# Altium footprint library DrvBoard-old.PcbLib: 22 footprints (part 2 of 2)
Each footprint in its own frame and in the unit in brackets; x right, y up, seen from the top. Pads: shape width x height; smd on the part's side, far side on the other; paste and mask are expansions set on the pad; w line width, h text height; cw(c..) or ccw(c..) is an arc to the next point about the centre after c.
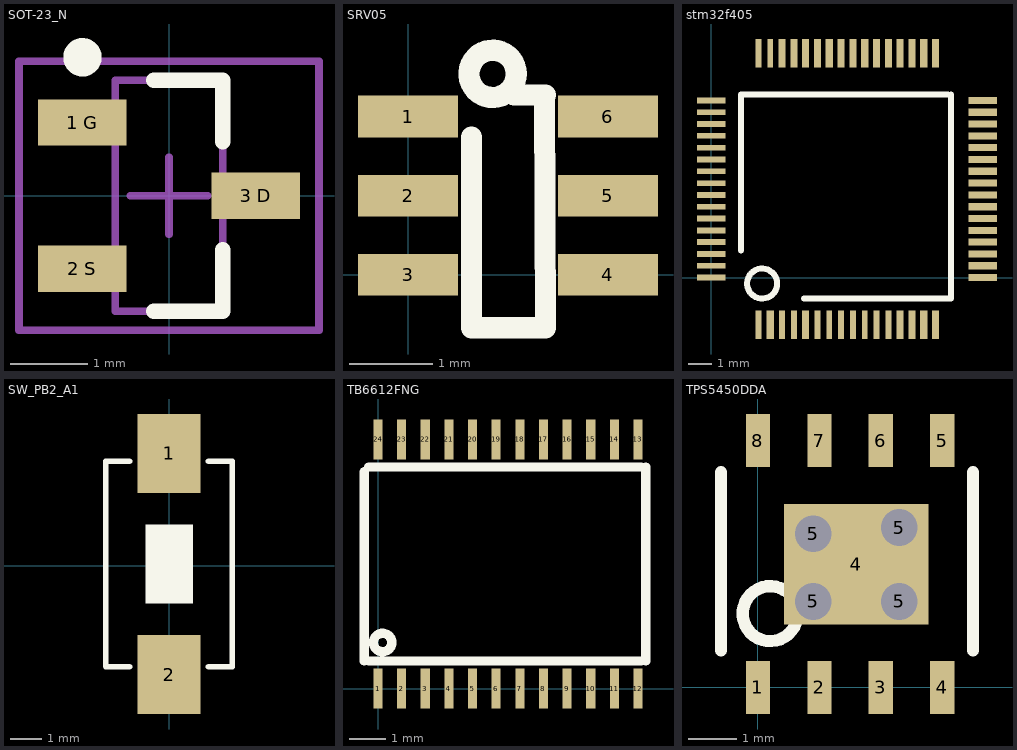
[diagram p1: the footprints below, top view; thin cyan lines are the x and y axes]

## SOT-23_N [mm] "SOT23, 3-Leads, Body 2.9x1.3mm, Pitch 0.95mm, Lead Span 2.5mm, IPC Medium Density"
height 1.1
pads (3):
  rect 1.15x0.6 smd: "1 G"(-1.125,0.95) "2 S"(-1.125,-0.95) "3 D"(1.125,0)
Top Overlay:
  circle w0.25: c-1.125,1.8 r0.125
  lines w0.2: -0.2,-1.5 0.7,-1.5 0.7,-0.7 ; -0.2,1.5 0.7,1.5 0.7,0.7
Mechanical 13:
  lines w0.1: -0.7,-1.5 -0.7,1.5 0.7,1.5 0.7,-1.5 -0.7,-1.5
Mechanical 15:
  lines w0.1: -0.5,0 0.5,0 ; 0,-0.5 0,0.5 ; -1.95,-1.75 -1.95,1.75 1.95,1.75 1.95,-1.75 -1.95,-1.75
3D body: height 1.1, standoff 0, extent -0.7,-1.5 0.7,1.5

## SRV05 [mm] "SOT-23-6"
pads (6):
  rect 1.2x0.5 smd: 1(0,1.9) 2(0,0.95) 3(0,0) 4(2.4,0) 5(2.4,0.95) 6(2.4,1.9)
Top Overlay:
  circle w0.254: c1.016,2.413 r0.284
  lines w0.254: 0.762,1.651 0.762,-0.635 1.652,-0.635 1.638,2.159 ; 1.27,2.159 1.652,2.159

## stm32f405 [mm] "LQFP64-64PIN 10*10mm"
pads (64):
  rect 0.25x1.2 smd paste+0 mask+0: "1 VBAT"(2,-2)
  rect 0.3x1.2 smd paste+0 mask+0: "2 PC13"(2.5,-2)
  rect 0.25x1.2 smd paste+0: 3(3,-2)
  rect 0.25x1.2 smd: 4(3.5,-2) 6(4.5,-2) "7 NRST"(5,-2) "8 PC0"(5.5,-2) "9 PC1"(6,-2) "10 PC2"(6.5,-2) 11(7,-2) "12 VSSA"(7.5,-2) 47(2.5,9.5) "48 VDD2"(2,9.5)
  rect 0.3x1.2 smd: 5(4,-2) "13 VDDA"(8,-2) 14(8.5,-2) 15(9,-2) "16 UART2_TX"(9.5,-2) 33(9.5,9.5) 34(9,9.5) 35(8.5,9.5) 36(8,9.5) "37 PC6"(7.5,9.5) 38(7,9.5) 39(6.5,9.5) "40 PC9"(6,9.5) 41(5.5,9.5) 42(5,9.5) 43(4.5,9.5) 44(4,9.5) 45(3.5,9.5) 46(3,9.5)
  rect 1.2x0.3 smd: 17(11.5,0) "18 VSS0"(11.5,0.5) "19 VDD1"(11.5,1) 20(11.5,1.5) 21(11.5,2) 22(11.5,2.5) 23(11.5,3) 24(11.5,3.5) "25 PC5"(11.5,4) 26(11.5,4.5) 27(11.5,5) 28(11.5,5.5) 29(11.5,6) 30(11.5,6.5) "31 VCAP_1"(11.5,7) "32 VDD0"(11.5,7.5)
  rect 1.2x0.24 smd: 49(0,7.5) 50(0,7) "51 PC10"(0,6.5) 52(0,6) 53(0,5.5) 54(0,5) 55(0,4.5) 56(0,4)
  rect 1.2x0.25 smd: 57(0,3.5) 58(0,3) 59(0,2.5) "60 BOOT0"(0,2) 61(0,1.5) 62(0,1) "63 VSS1"(0,0.5) "64 VDD3"(0,0)
Top Overlay:
  circle w0.254: c2.159,-0.254 r0.635
  lines w0.254: 1.27,1.143 1.27,7.747 10.033,7.747 ; 3.937,-0.889 10.16,-0.889 10.16,7.747

## SW_PB2_A1 [mm]
height 0.65
pads (2):
  rect 2x2.5 smd: 1(0,3.556) 2(0,-3.444)
Top Overlay:
  region: -0.746,1.307 -0.746,-1.193 0.754,-1.193 0.754,1.307
  lines w0.178: -1.25,-3.194 -2,-3.19 -2,3.306 -1.25,3.306 ; 1.25,-3.194 2,-3.194 2,3.306 1.25,3.306
3D body: height 0.8, standoff 0, extent -2.032,-3.175 2.032,3.302
3D body: height 1.2, standoff 0.8, extent -0.762,-1.143 0.762,1.27

## TB6612FNG [mm] "SSOP24"
pads (24):
  rect 0.25x1.1 smd: 1(0,0) 2(0.65,0) 3(1.3,0) 4(1.95,0) 5(2.6,0) 6(3.25,0) 7(3.9,0) 8(4.55,0) 9(5.2,0) 10(5.85,0) 11(6.5,0) 12(7.15,0) 13(7.15,6.858) 14(6.5,6.858) 15(5.85,6.858) 16(5.2,6.858) 17(4.55,6.858) 18(3.9,6.858) 19(3.25,6.858) 20(2.6,6.858) 21(1.95,6.858) 22(1.3,6.858) 23(0.65,6.858) 24(0,6.858)
Top Overlay:
  circle w0.254: c0.127,1.27 r0.254
  lines w0.254: -0.381,0.762 -0.381,5.969 ; -0.254,0.762 7.239,0.762 ; -0.254,6.096 7.239,6.096 ; 7.366,0.762 7.366,6.096

## TPS5450DDA [mm] "PSOO-8"
pads (13):
  rect 0.5x1.1 smd: 1(0,0) 2(1.27,0) 3(2.54,0) 4(3.81,0) 5(3.81,5.1) 6(2.54,5.1) 7(1.27,5.1) 8(0,5.1)
  rect 2.99x2.49 smd: 4(2.032,2.54)
  round 0.7 hole 0.762: 5(1.143,1.778) 5(1.143,3.175) 5(2.921,1.778) 5(2.921,3.302)
Top Overlay:
  circle w0.254: c0.254,1.524 r0.568
  lines w0.254: -0.762,0.762 -0.762,4.445 ; 4.445,0.762 4.445,4.445